# EAGLE library part 1658998-1 (library mini_din)
8 Pole Female Right Angle Miniature DIN Connector, 30 V ac, 1A Source: Datasheet <https://datasheet.datasheetarchive.com/originals/distributors/Datasheets_SAMA/8fa96dbeeea68215f2d4c519c93d766c.pdf>
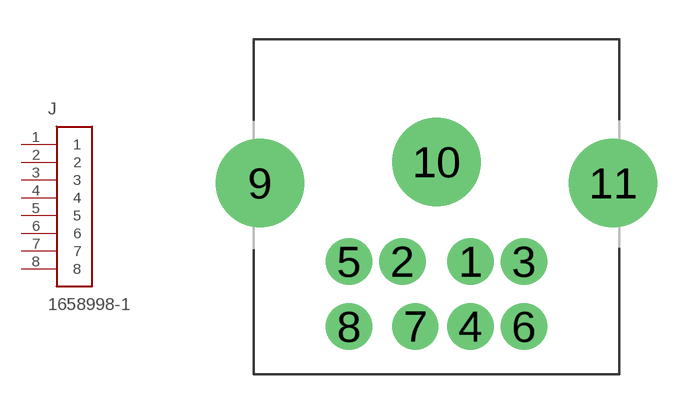
[diagram p0: symbol with the pads of 1658998-1; footprint 1658998-1]

Designator prefix J

## 1658998-1 (DESCRIPTION: 8 Pole Female Right Angle Miniature DIN Connector, 30 V ac, 1A; HEIGHT: mm; MANUFACTURER_NAME: TE Connectivity; MANUFACTURER_PART_NUMBER: 1658998-1; MOUSER_PART_NUMBER: 571-1658998-1; MOUSER_PRICE-STOCK: https://www.mouser.co.uk/ProductDetail/TE-Connectivity/1658998-1?qs=mVVXn4M53U89jHhxG1q3Pg%3D%3D)  [1658998-1]
1  1
2  2
3  3
4  4
5  5
6  6
7  7
8  8

## Footprint 1658998-1 (pad centres in mm)
1658998-1
drill 0.97 pad 1.77: 1 1.3,-8.51; 2 -1.3,-8.51; 3 3.35,-8.51; 4 1.3,-11; 5 -3.35,-8.51; 6 3.35,-11; 7 -0.81,-11; 8 -3.35,-11
drill 2.37 pad 3.38: 9 -6.76,-5.51; 10 0,-4.7; 11 6.76,-5.51